# EAGLE library part ESP8266 (library MTS-OTR_Custom)
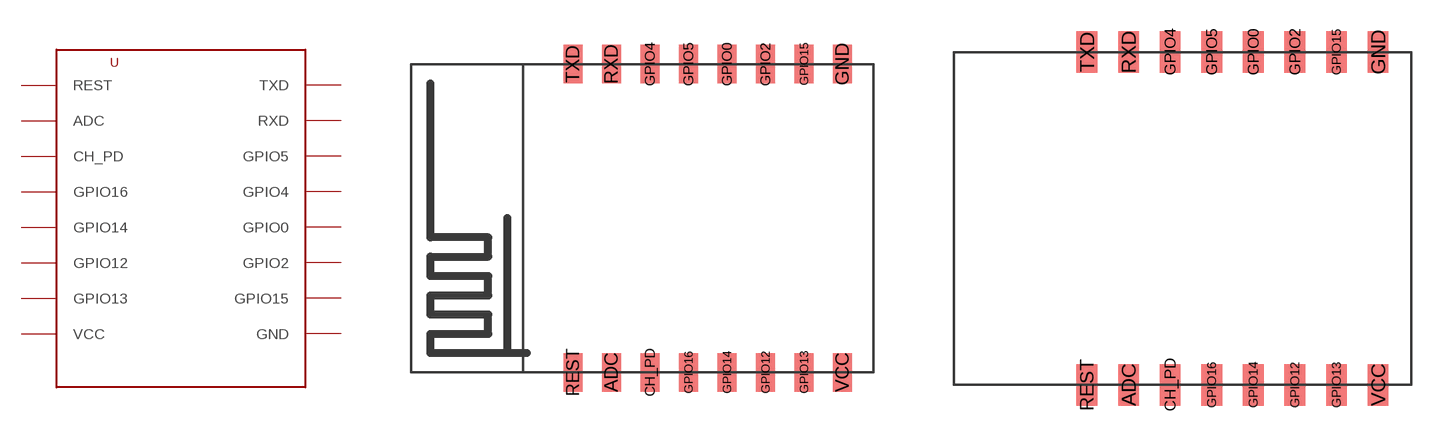
[diagram p35: symbol with the pads of ESP-12; footprints ESP-12, ESP-07]

Designator prefix -

## ESP8266-12  [ESP-12]
ADC  ADC
CH_PD  CH_PD  in
GND  GND  pwr
GPIO0  GPIO0
GPIO2  GPIO2
GPIO4  GPIO5
GPIO5  GPIO4
GPIO12  GPIO12
GPIO13  GPIO13
GPIO14  GPIO14
GPIO15  GPIO15  in
GPIO16  GPIO16
REST  REST
RXD  RXD  in
TXD  TXD  out
VCC  VCC  pwr

## ESP8266-07  [ESP-07]
Pads as for ESP-12

## ESP8266-08  [ESP-08]
Pads as for ESP-12

## ESP8266PINS  [ESP-07PINS]
P$1  REST
P$2  ADC
P$3  CH_PD  in
P$4  GPIO16
P$5  GPIO14
P$6  GPIO12
P$7  GPIO13
P$8  VCC  pwr
P$9  GND  pwr
P$10  GPIO15  in
P$11  GPIO2
P$12  GPIO0
P$13  GPIO4
P$14  GPIO5
P$15  RXD  in
P$16  TXD  out

## Footprint ESP-12 (pad centres in mm)
smd 1 x 2: ADC -1.6,-8; CH_PD 0.4,-8; GND 10.4,8; GPIO0 4.4,8; GPIO2 6.4,8; GPIO4 0.4,8; GPIO5 2.4,8; GPIO12 6.4,-8; GPIO13 8.4,-8; GPIO14 4.4,-8; GPIO15 8.4,8; GPIO16 2.4,-8; REST -3.6,-8; RXD -1.6,8; TXD -3.6,8; VCC 10.4,-8

## Footprint ESP-07 (pad centres in mm)
smd 1 x 2: ADC -1.6,-8; CH_PD 0.4,-8; GND 10.4,8; GPIO0 4.4,8; GPIO2 6.4,8; GPIO4 0.4,8; GPIO5 2.4,8; GPIO12 6.4,-8; GPIO13 8.4,-8; GPIO14 4.4,-8; GPIO15 8.4,8; GPIO16 2.4,-8; REST -3.6,-8; RXD -1.6,8; TXD -3.6,8; VCC 10.4,-8

## Footprint ESP-08 (pad centres in mm)
smd 1 x 2: ADC -1.6,-8; CH_PD 0.4,-8; GND 10.4,8; GPIO0 4.4,8; GPIO2 6.4,8; GPIO4 0.4,8; GPIO5 2.4,8; GPIO12 6.4,-8; GPIO13 8.4,-8; GPIO14 4.4,-8; GPIO15 8.4,8; GPIO16 2.4,-8; REST -3.6,-8; RXD -1.6,8; TXD -3.6,8; VCC 10.4,-8

## Footprint ESP-07PINS (pad centres in mm)
drill 0.9 pad 1.27: P$1 -7.5,-7; P$2 -5.5,-7; P$3 -3.5,-7; P$4 -1.5,-7; P$5 0.5,-7; P$6 2.5,-7; P$7 4.5,-7; P$8 6.5,-7; P$9 6.5,7; P$10 4.5,7; P$11 2.5,7; P$12 0.5,7; P$13 -1.5,7; P$14 -3.5,7; P$15 -5.5,7; P$16 -7.5,7